# EAGLE library part MICRO_MATE-N-LOK_6_1ROW_THROUGH (library con-tyco-micro-mate-n-lok-old)
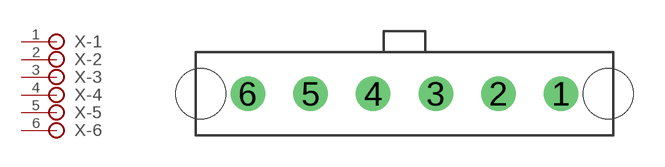
[diagram p8: symbol with the pads of MICRO_MATE-N-LOK_6_1_ROW_THROUGH_VERTICAL; footprint MICRO_MATE-N-LOK_6_1_ROW_THROUGH_VERTICAL]

Designator prefix X; gates -3=PIN -2=PIN -1=PIN -4=PIN -5=PIN -6=PIN

## MICRO_MATE-N-LOK_6_1ROW_THROUGH  [MICRO_MATE-N-LOK_6_1_ROW_THROUGH_VERTICAL]
1  -1:P$1
2  -2:P$1
3  -3:P$1
4  -4:P$1
5  -5:P$1
6  -6:P$1

## Footprint MICRO_MATE-N-LOK_6_1_ROW_THROUGH_VERTICAL (pad centres in mm)
drill 1.1: 1 7.5,0; 2 4.5,0; 3 1.5,0; 4 -1.5,0; 5 -4.5,0; 6 -7.5,0
hole 2.4 at -9.75,0
hole 2.4 at 9.75,0